# Altium schematic symbol library Active-Buzzer.SchLib: 2 symbols
Pins are listed as number, name and electrical type; pins without a type are passive.

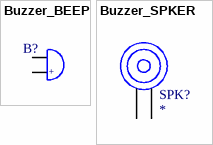
[diagram p0: symbols Buzzer_BEEP to Buzzer_SPKER]

## Buzzer_BEEP
designator B?
蜂鸣器; Manufacturer_Name: *; Manufacturer_Part_Number: *
footprint BEEP 6.5x12x6 (6.5*12*6mm(脚距,直径,高度))
footprint BEEP 5x9x5.5 (5*9*5.5mm(脚距,直径,高度))
footprint BEEP 6.5x12x8.5 (6.5*12*8.5mm(脚距,直径,高度))
footprint BEEP 7.6X12X7.5 (6.5*12*7.5mm(脚距,直径,高度))
footprint BEEP 7.6X12X9.5 (6.5*12*9.5mm(脚距,直径,高度))
pins: 1, 2
text: +

## Buzzer_SPKER
designator SPK?
Manufacturer_Name: *; Manufacturer_Part_Number: *
footprint SPK_40MM
pins: 1, 2